# Altium footprint library LaunchyRIOFootprints.PcbLib: 57 footprints (part 1 of 4)
Each footprint in its own frame and in the unit in brackets; x right, y up, seen from the top. Pads: shape width x height; smd on the part's side, far side on the other; paste and mask are expansions set on the pad; w line width, h text height; cw(c..) or ccw(c..) is an arc to the next point about the centre after c.
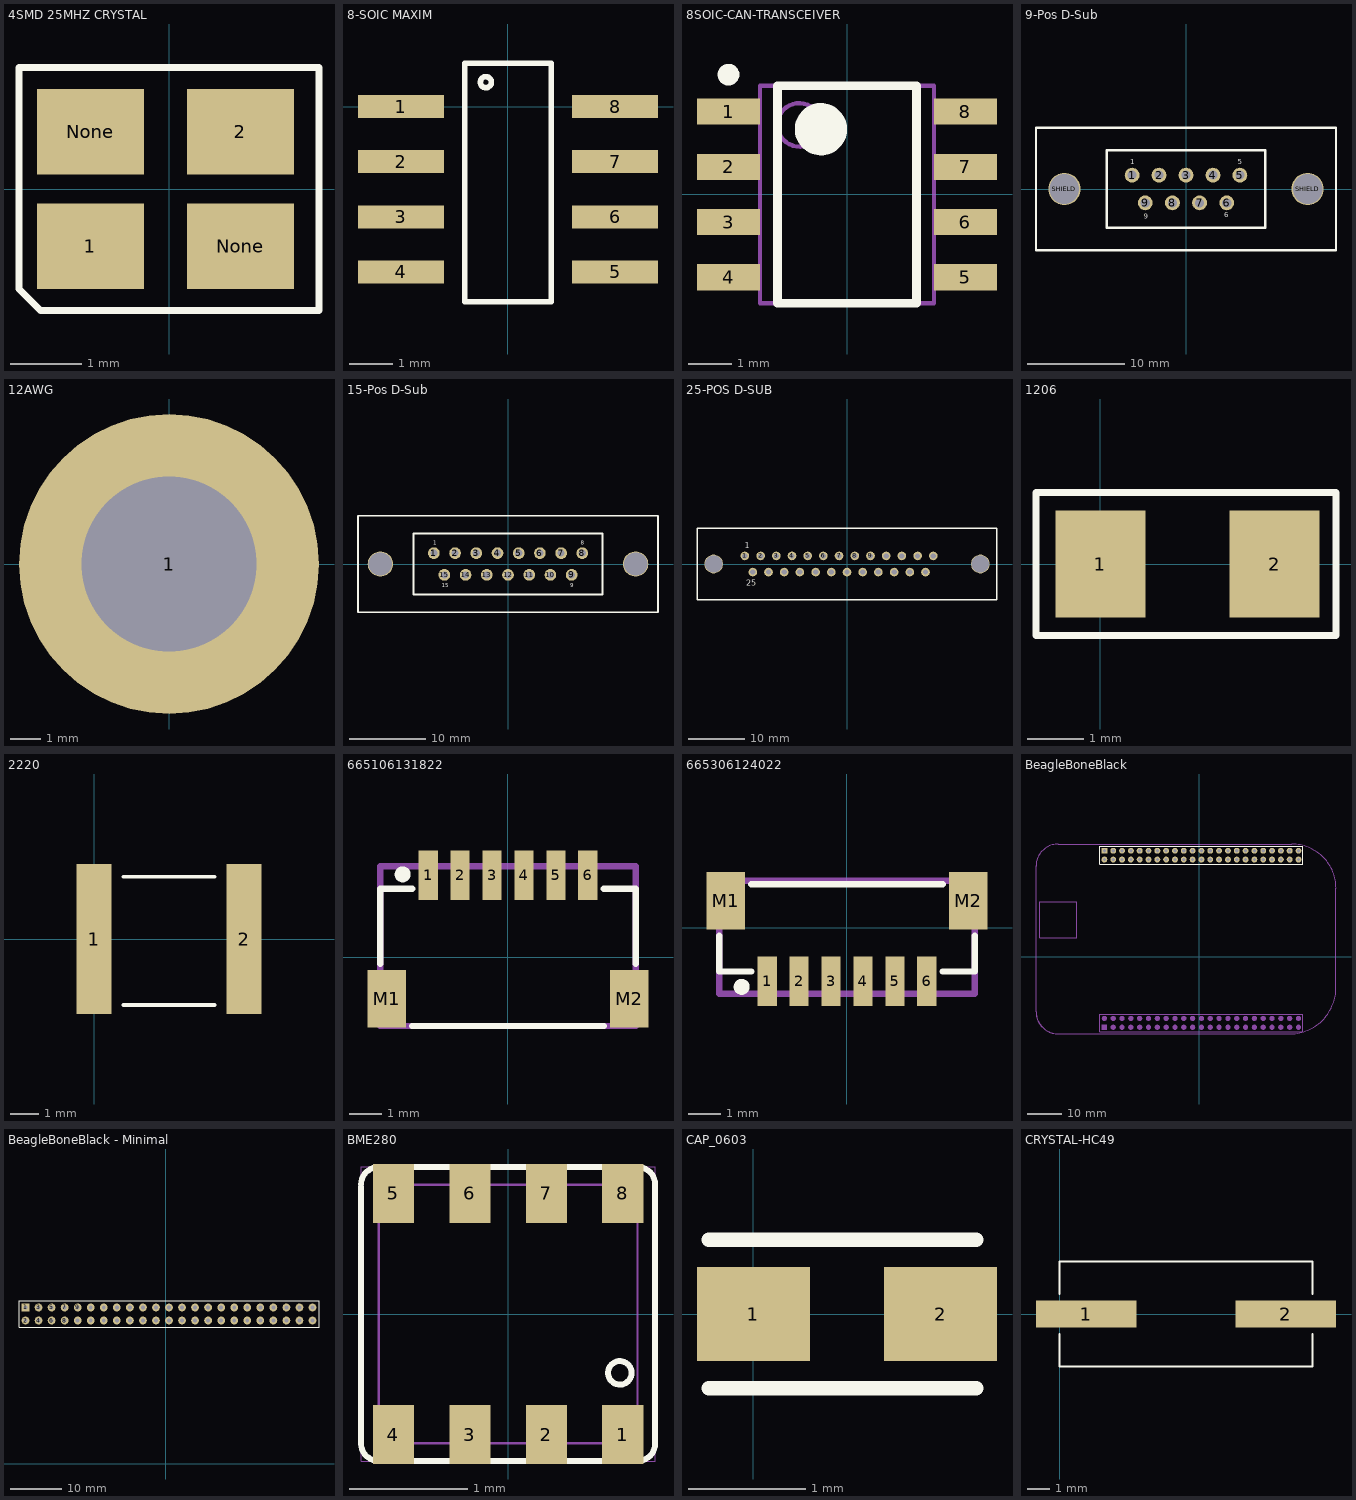
[diagram p0: the footprints below, top view; thin cyan lines are the x and y axes]

## 4SMD 25MHZ CRYSTAL [mm]
pads (4):
  rect 1.5x1.2 smd: 1(-1.1,-0.8) 2(1,0.8) None(-1.1,0.8) None(1,-0.8)
Top Overlay:
  lines w0.1: -2.1,-1.4 -1.8,-1.7 2.1,-1.7 2.1,-1.6 2.1,1.7 -2.1,1.7 -2.1,-1.4

## 8-SOIC MAXIM [mm] "Thermocouple Amplifier, Maxim Land Pattern 90-0096"
pads (8):
  rect 1.98x0.53 smd: 1(-2.465,0) 2(-2.465,-1.27) 3(-2.465,-2.54) 4(-2.465,-3.81) 5(2.465,-3.81) 6(2.465,-2.54) 7(2.465,-1.27) 8(2.465,0)
Top Overlay:
  circle w0.127: c-0.51,0.56 r0.127
  lines w0.127: -1,-4.5 -1,1 1,1 1,-4.5 -1,-4.5

## 8SOIC-CAN-TRANSCEIVER [mm] "SOIC, 8-Leads, Body 4.90x3.90mm, Pitch 1.27mm, IPC Medium Density"
height 1.75
pads (8):
  rect 1.45x0.6 smd: 1(-2.725,1.905) 2(-2.725,0.635) 3(-2.725,-0.635) 4(-2.725,-1.905) 5(2.725,-1.905) 6(2.725,-0.635) 7(2.725,0.635) 8(2.725,1.905)
Top Overlay:
  circle w0.6: c-0.6,1.5 r0.3
  circle w0.25: c-2.725,2.755 r0.125
  lines w0.2: -1.6,-2.5 1.6,-2.5 1.6,2.5 -1.6,2.5 -1.6,-2.5
Mechanical 13:
  circle w0.1: c-1.1,1.6 r0.5
  lines w0.1: -2,-2.5 2,-2.5 2,2.5 -2,2.5 -2,-2.5
3D body: height 1.75, standoff 0.1, extent -2,-2.5 2,2.5

## 9-Pos D-Sub [mil] "9-pos connector"
height 456
pads (11):
  round 60 hole 37: 1(-218,56) 2(-109,56) 3(0,56) 4(109,56) 5(218,56) 6(165,-56) 7(55,-56) 8(-55,-56) 9(-165,-56)
  round 130 hole 120 unplated: SHIELD(-492,0) SHIELD(492,0)
Top Overlay:
  lines w10: -607,-248 607,-248 607,248 -607,248 -607,-248 ; -321,-156 321,-156 321,156 -321,156 -321,-156
  text "1" at -225,100 h20
  text "5" at 210,100 h20
  text "6" at 155,-115 h20
  text "9" at -170,-120 h20
Bottom Overlay:
  text "9" at -155,-120 h20
  text "1" at -220,100 h20
  text "5" at 225,100 h20
  text "6" at 170,-115 h20

## 12AWG [mm] "American wire gauge (AWG) size 12 (11.684 mm)"
pads (1):
  round 10 hole 5.842: 1(0,0)

## 15-Pos D-Sub [mil] "15-pos connector"
height 456
pads (17):
  round 60 hole 37: 1(-381,56) 2(-272,56) 3(-163,56) 4(-54,56) 5(55,56) 6(164,56) 7(273,56) 8(382,56) 9(327,-56) 10(218,-56) 11(109,-56) 12(0,-56) 13(-109,-56) 14(-218,-56) 15(-327,-56)
  round 130 hole 120 unplated: SHIELD(-656,0) SHIELD(656,0)
Top Overlay:
  lines w10: -771,-248 -771,248 771,248 771,-248 -771,-248 ; -485,-156 -485,156 485,156 485,-156 -485,-156
  text "1" at -385,100 h20
  text "8" at 375,100 h20
  text "9" at 320,-120 h20
  text "15" at -340,-120 h20
Bottom Overlay:
  text "8" at 390,100 h20
  text "9" at 335,-120 h20
  text "15" at -310,-120 h20

## 25-POS D-SUB [mil]
pads (27):
  round 60 hole 37: 1(-709,56) 2(-600,56) 3(-491,56) 4(-382,56) 5(-273,56) 6(-164,56) 8(54,56) 9(163,56) 10(272,56) 11(381,56) 12(490,56) 13(599,56) 14(545,-56) 15(436,-56) 16(327,-56) 17(218,-56) 18(109,-56) 19(0,-56) 20(-109,-56) 21(-218,-56) 22(-327,-56) 23(-436,-56) 24(-545,-56) 25(-654,-56)
  round 60 hole 37 paste+0: 7(-55.33,56)
  round 130 hole 120 unplated: SHIELD(-926,0) SHIELD(926,0)
Top Overlay:
  lines w10: -1041.5,-248 -1041.5,248 1041.5,248 1041.5,-248 -1041.5,-248
  text "1" at -710,110 h40
  text "25" at -700,-150 h40

## 1206 [mm]
pads (2):
  rect 1.6x1.9 smd: 1(0,0) 2(3.1,0)
Top Overlay:
  lines w0.127: -1.143,-1.27 -1.143,1.27 4.191,1.27 4.191,-1.27 -1.143,-1.27

## 2220 [mm]
pads (2):
  rect 1.2x5.2 smd: 1(0,0) 2(5.2,0)
Top Overlay:
  lines w0.127: 1.016,-2.286 4.191,-2.286 ; 1.016,2.159 4.191,2.159

## 665106131822 [mm] "1.00 mm SMT Male Horizontal Shrouded, 6p"
height 3.1
pads (8):
  rect 0.6x1.55 smd: 1(-2.5,2.575) 2(-1.5,2.575) 3(-0.5,2.575) 4(0.5,2.575) 5(1.5,2.575) 6(2.5,2.575)
  rect 1.2x1.8 smd: M1(-3.8,-1.3) M2(3.8,-1.3)
Top Overlay:
  circle w0.3: c-3.3,2.6 r0.1
  lines w0.2: -4,-0.2 -4,2.15 -3,2.15 ; -3,-2.15 3,-2.15 ; 3,2.15 4,2.15 4,-0.2
Mechanical 13:
  lines w0.2: -4,-2.15 -4,2.85 4,2.85 4,-2.15 -4,-2.15
3D body "665106131822.stp": height 2.97, standoff 0, extent -4,-2.1 4,2.85

## 665306124022 [mm] "1.00 mm SMT Male Vertical Shrouded Header, 6p"
height 3.7
pads (8):
  rect 0.6x1.55 smd: 1(-2.5,-1.675) 2(-1.5,-1.675) 3(-0.5,-1.675) 4(0.5,-1.675) 5(1.5,-1.675) 6(2.5,-1.675)
  rect 1.2x1.8 smd: M1(-3.8,0.85) M2(3.8,0.85)
Top Overlay:
  circle w0.3: c-3.3,-1.85 r0.1
  lines w0.2: -4,-0.25 -4,-1.37 -3,-1.37 ; -3,1.37 3,1.37 ; 3,-1.37 4,-1.37 4,-0.25
Mechanical 13:
  lines w0.2: -4,-2.07 -4,1.47 4,1.47 4,-2.07 -4,-2.07
3D body "665306124022.stp": height 4.29, standoff 0.01, extent -4,-2.07 4,1.475

## BeagleBoneBlack [mm]
pads (92):
  rect 1.7x1.7 hole 0.9 mask+0.051: 1(-27.297,30.458)
  round 1.7 hole 0.9 mask+0.051: 2(-27.297,27.918) 3(-24.757,30.458) 4(-24.757,27.918) 5(-22.217,30.458) 6(-22.217,27.918) 7(-19.677,30.458) 8(-19.677,27.918) 9(-17.137,30.458) 10(-17.137,27.918) 11(-14.597,30.458) 12(-14.597,27.918) 13(-12.057,30.458) 14(-12.057,27.918) 15(-9.517,30.458) 16(-9.517,27.918) 17(-6.977,30.458) 18(-6.977,27.918) 19(-4.437,30.458) 20(-4.437,27.918) 21(-1.897,30.458) 22(-1.897,27.918) 23(0.643,30.458) 24(0.643,27.918) 25(3.183,30.458) 26(3.183,27.918) 27(5.723,30.458) 28(5.723,27.918) 29(8.263,30.458) 30(8.263,27.918) 31(10.803,30.458) 32(10.803,27.918) 33(13.343,30.458) 34(13.343,27.918) 35(15.883,30.458) 36(15.883,27.918) 37(18.423,30.458) 38(18.423,27.918) 39(20.963,30.458) 40(20.963,27.918) 41(23.503,30.458) 42(23.503,27.918) 43(26.043,30.458) 44(26.043,27.918) 45(28.583,30.458) 46(28.583,27.918)
  rect 1.524x1.524 on Mech13 mask+0.051: NONE(-27.297,-20.342)
  round 1.524 on Mech13 mask+0.051: NONE(-27.297,-17.802) NONE(-24.757,-20.342) NONE(-24.757,-17.802) NONE(-22.217,-20.342) NONE(-22.217,-17.802) NONE(-19.677,-20.342) NONE(-19.677,-17.802) NONE(-17.137,-20.342) NONE(-17.137,-17.802) NONE(-14.597,-20.342) NONE(-14.597,-17.802) NONE(-12.057,-20.342) NONE(-12.057,-17.802) NONE(-9.517,-20.342) NONE(-9.517,-17.802) NONE(-6.977,-20.342) NONE(-6.977,-17.802) NONE(-4.437,-20.342) NONE(-4.437,-17.802) NONE(-1.897,-20.342) NONE(-1.897,-17.802) NONE(0.643,-20.342) NONE(0.643,-17.802) NONE(3.183,-20.342) NONE(3.183,-17.802) NONE(5.723,-20.342) NONE(5.723,-17.802) NONE(8.263,-20.342) NONE(8.263,-17.802) NONE(10.803,-20.342) NONE(10.803,-17.802) NONE(13.343,-20.342) NONE(13.343,-17.802) NONE(15.883,-20.342) NONE(15.883,-17.802) NONE(18.423,-20.342) NONE(18.423,-17.802) NONE(20.963,-20.342) NONE(20.963,-17.802) NONE(23.503,-20.342) NONE(23.503,-17.802) NONE(26.043,-20.342) NONE(26.043,-17.802) NONE(28.583,-20.342) NONE(28.583,-17.802)
Top Overlay:
  lines w0.127: -28.567,26.648 -28.567,31.728 -26.027,31.728 29.853,31.728 29.853,26.648 -26.027,26.648 -28.567,26.648
Mechanical 13:
  lines w0.127: -46.982,26.013 cw(c-40.632,26.013) -40.632,32.363 ; -46.97,-15.875 -46.97,26.075 ; -46.96,-15.875 ccw(c-40.61,-15.875) -40.61,-22.225 ; -40.785,-22.233 26.678,-22.233 ; -40.632,32.36 26.678,32.36 ; -40.632,32.363 ccw(c-40.632,26.013) -46.982,26.013 -46.982,-15.897 ccw(c-40.632,-15.897) -40.632,-22.247 26.053,-22.247 ; 25.785,-22.245 ccw(c26.053,-8.925) 39.375,-8.925 39.375,19.663 ; 26.678,32.363 cw(c26.678,19.663) 39.378,19.663 ; -45.974,5.461 -45.974,15.748 -45.847,15.748 -35.306,15.748 -35.306,5.461 -45.974,5.461 ; -28.567,-21.612 -28.567,-16.532 -26.027,-16.532 29.853,-16.532 29.853,-21.612 -26.027,-21.612 -28.567,-21.612
  text "RJ45" at -43.434,10.16 h1.52

## BeagleBoneBlack - Minimal [mil]
pads (46):
  rect 60x60 hole 30 mask+2: 1(-1074.67,1199.13)
  round 60 hole 30 mask+2: 2(-1074.67,1099.13) 3(-974.67,1199.13) 4(-974.67,1099.13) 5(-874.67,1199.13) 6(-874.67,1099.13) 7(-774.67,1199.13) 8(-774.67,1099.13) 9(-674.67,1199.13) 10(-674.67,1099.13) 11(-574.67,1199.13) 12(-574.67,1099.13) 13(-474.67,1199.13) 14(-474.67,1099.13) 15(-374.67,1199.13) 16(-374.67,1099.13) 17(-274.67,1199.13) 18(-274.67,1099.13) 19(-174.67,1199.13) 20(-174.67,1099.13) 21(-74.67,1199.13) 22(-74.67,1099.13) 23(25.33,1199.13) 24(25.33,1099.13) 25(125.33,1199.13) 26(125.33,1099.13) 27(225.33,1199.13) 28(225.33,1099.13) 29(325.33,1199.13) 30(325.33,1099.13) 31(425.33,1199.13) 32(425.33,1099.13) 33(525.33,1199.13) 34(525.33,1099.13) 35(625.33,1199.13) 36(625.33,1099.13) 37(725.33,1199.13) 38(725.33,1099.13) 39(825.33,1199.13) 40(825.33,1099.13) 41(925.33,1199.13) 42(925.33,1099.13) 43(1025.33,1199.13) 44(1025.33,1099.13) 45(1125.33,1199.13) 46(1125.33,1099.13)
Top Overlay:
  lines w5: -1124.67,1049.13 -1124.67,1249.13 -1024.67,1249.13 1175.33,1249.13 1175.33,1049.13 -1024.67,1049.13 -1124.67,1049.13

## BME280 [mm]
pads (8):
  rect 0.35x0.5 smd: 1(0.975,-1.025) 2(0.325,-1.025) 3(-0.325,-1.025) 4(-0.975,-1.025) 5(-0.975,1.025) 6(-0.325,1.025) 7(0.325,1.025) 8(0.975,1.025)
Top Overlay:
  circle w0.05: c0.95,-0.5 r0.1
  lines w0.02: -1.1,-1 ccw(c-1,-1) -1,-1.1 ; -1.1,1 cw(c-1,1) -1,1.1 ; 1,-1.1 ccw(c1,-1) 1.1,-1 ; 1,1.1 cw(c1,1) 1.1,1
  lines w0.05: -1.252,-1.11 -1.252,1.077 ; -1.25,-1.1 ccw(c-1.1,-1.1) -1.1,-1.25 -1.05,-1.25 1.1,-1.25 ccw(c1.1,-1.1) 1.25,-1.1 1.25,-1.05 1.25,1.1 ccw(c1.1,1.1) 1.1,1.25 1.05,1.25 -1.1,1.25 ccw(c-1.1,1.1) -1.25,1.1
Mechanical 1:
  lines w0.01: -1.25,-1.25 1.25,-1.25 1.25,1.25 -1.25,1.25 -1.25,-1.25
  lines w0.02: -1.1,-1 -1.1,1 ; -1,-1.1 1,-1.1 ; -1,1.1 1,1.1 ; 1.1,-1 1.1,1

## CAP_0603 [mil]
pads (2):
  rect 38x31.5 smd: 1(0,0) 2(63,0)
Top Overlay:
  lines w5: -15,-25 75,-25 ; -15,25 75,25
3D body: height 25, standoff 0, extent 54.13,-15.75 64.96,15.75
3D body: height 25, standoff 0, extent -2.95,-15.75 7.87,15.75
3D body: height 25, standoff 0, extent 7.87,-15.75 54.13,15.75

## CRYSTAL-HC49 [mm]
pads (2):
  rect 4.5x1.2 smd: 1(1.2,0) 2(10.1,0)
Top Overlay:
  lines w0.1: 0,-0.9 0,-2.35 11.3,-2.35 11.3,-0.9 ; 0,0.9 0,2.35 11.3,2.35 11.3,0.9